# Altium footprint library Standard Components.PcbLib: 16 footprints
Each footprint in its own frame and in the unit in brackets; x right, y up, seen from the top. Pads: shape width x height; smd on the part's side, far side on the other; paste and mask are expansions set on the pad; w line width, h text height; cw(c..) or ccw(c..) is an arc to the next point about the centre after c.
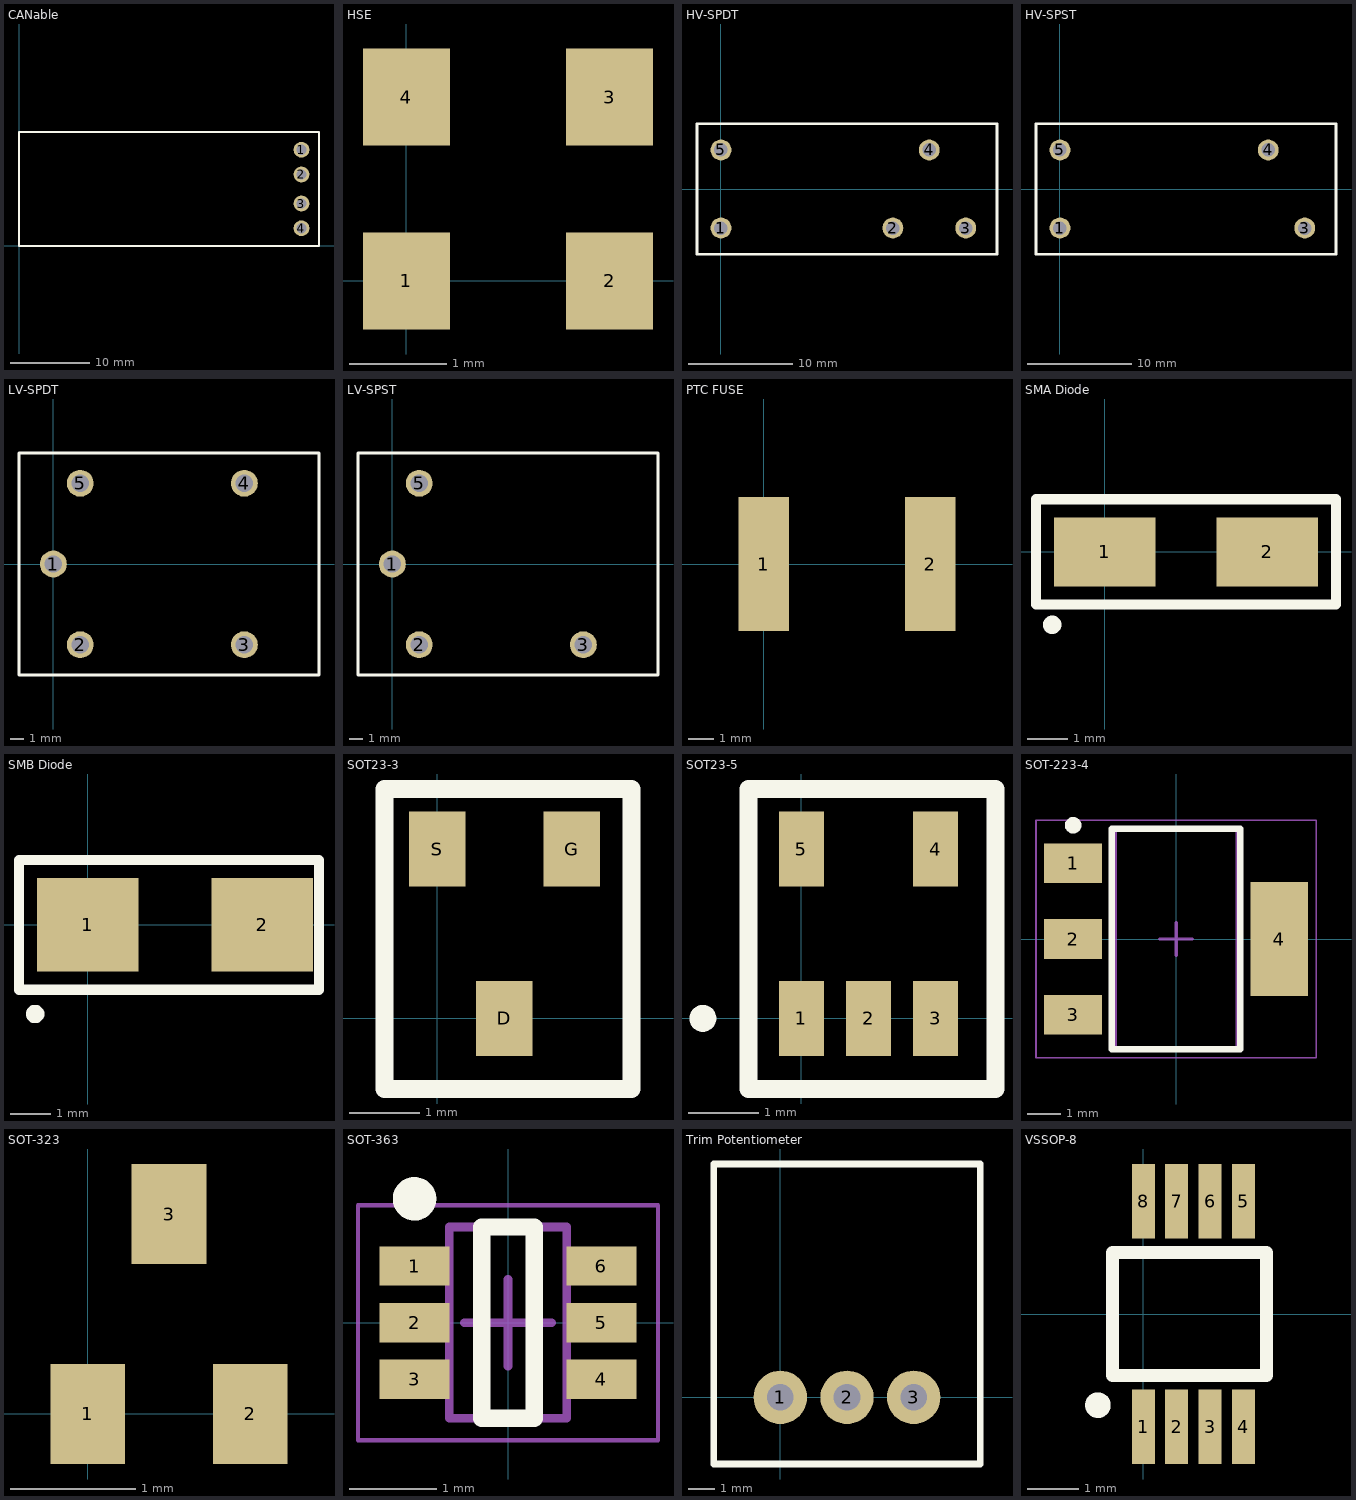
[diagram p0: the footprints below, top view; thin cyan lines are the x and y axes]

## CANable [mm] "CAN to USB adapter"
pads (4):
  round 2 hole 1.3: 1(35.636,12.13) 2(35.636,9.011) 3(35.636,5.34) 4(35.636,2.221)
Top Overlay:
  lines w0.254: 0,14.351 0,0 37.846,0 37.846,14.351 0.127,14.351
3D body: height 15.7, standoff 0, extent 0,0 37.846,14.224

## HSE [mm]
pads (4):
  rect 0.9x1 smd: 1(0,0) 2(2.1,0) 3(2.1,1.9) 4(0,1.9)

## HV-SPDT [mm]
pads (5):
  round 2 hole 1.3: 1(0,-3.75) 2(16.5,-3.75) 3(23.5,-3.75) 4(20,3.75) 5(0,3.75)
Top Overlay:
  lines w0.254: -2.3,-6.25 23.241,-6.25 26.5,-6.25 26.5,6.25 -2.3,6.25 -2.3,-6.25
3D body: height 15.7, standoff 0, extent -2.286,-6.223 26.543,6.223
3D body: height 15.7, standoff 0, extent -2.286,-6.223 26.543,6.223

## HV-SPST [mm]
pads (4):
  round 2 hole 1.3: 1(0,-3.75) 3(23.5,-3.75) 4(20,3.75) 5(0,3.75)
Top Overlay:
  lines w0.254: -2.3,-6.25 23.241,-6.25 26.5,-6.25 26.5,6.25 -2.3,6.25 -2.3,-6.25

## LV-SPDT [mm]
pads (5):
  round 2 hole 1.3: 1(0,0) 2(2,-6) 3(14.2,-6) 4(14.2,6) 5(2,6)
Top Overlay:
  lines w0.254: -2.55,-8.25 -2.55,8.25 19.75,8.25 19.75,-8.25 -2.55,-8.25

## LV-SPST [mm]
pads (4):
  round 2 hole 1.3: 1(0,0) 2(2,-6) 3(14.2,-6) 5(2,6)
Top Overlay:
  lines w0.254: -2.55,-8.25 19.75,-8.25 19.75,8.25 -2.55,8.25 -2.55,-8.25
3D body: height 19, standoff 0, extent -2.54,-8.255 19.812,8.255

## PTC FUSE [mm]
pads (2):
  rect 2x5.3 smd: 1(0,0) 2(6.6,0)

## SMA Diode [mm]
pads (2):
  rect 2.5x1.7 smd: 1(0,0) 2(4,0)
Top Overlay:
  circle w0.254: c-1.3,-1.8 r0.1
  lines w0.254: -1.7,-1.3 5.7,-1.3 5.7,1.3 -1.7,1.3 -1.7,-1.3

## SMB Diode [mm]
pads (2):
  rect 2.5x2.3 smd: 1(0,0) 2(4.3,0)
Top Overlay:
  circle w0.254: c-1.3,-2.2 r0.1
  lines w0.254: -1.7,-1.6 -1.7,1.6 5.7,1.6 5.7,-1.6 -1.7,-1.6

## SOT23-3 [mm] "SOT23-3 - MOSFET"
pads (3):
  rect 0.8x1.067 smd: D(0.95,0) G(1.9,2.4) S(0,2.4)
Top Overlay:
  lines w0.254: -0.75,-1 -0.75,3.25 2.75,3.25 2.75,-1 -0.75,-1
3D body: height 0.25, standoff 0, extent -0.762,1.651 -0.762,1.651
3D body: height 1.1, standoff 0, extent -0.762,0.7 2.75,1.7

## SOT23-5 [mm]
pads (5):
  rect 0.635x1.067 smd: 1(0,0) 2(0.95,0) 3(1.9,0) 4(1.9,2.4) 5(0,2.4)
Top Overlay:
  circle w0.254: c-1.397,0 r0.063
  lines w0.254: -0.75,-1 2.75,-1 2.75,3.25 -0.75,3.25 -0.75,-1
3D body: height 1.45, standoff 0, extent -0.762,0.7 2.75,1.7

## SOT-223-4 [mm] "SOT223, 4-Leads, Body 6.50x7.00mm (avg), Pitch 2.30mm, IPC Medium Density"
height 1.8
pads (4):
  rect 1.75x1.2 smd: 1(-3.125,2.3) 2(-3.125,0) 3(-3.125,-2.3)
  rect 1.75x3.45 smd: 4(3.125,0)
Top Overlay:
  circle w0.25: c-3.125,3.45 r0.125
  lines w0.2: -1.95,-3.35 -1.95,3.35 1.95,3.35 1.95,-3.35 -1.95,-3.35
Mechanical 13:
  lines w0.1: -1.85,-3.35 -1.85,3.35 1.85,3.35 1.85,-3.35 -1.85,-3.35
Mechanical 15:
  lines w0.05: -4.25,-3.6 -4.25,3.6 4.25,3.6 4.25,-3.6 -4.25,-3.6
  lines w0.1: -0.5,0 0.5,0 ; 0,-0.5 0,0.5
3D body "SOT230P700X180-4N.step": height 1.8, standoff 0, extent -3.5,-3.35 3.5,3.35

## SOT-323 [mm]
pads (3):
  rect 0.6x0.8 smd: 1(0,0) 2(1.3,0) 3(0.65,1.6)

## SOT-363 [mm] "SOT23, 6-Leads, Body 2.00x2.10mm, Pitch 0.65mm, IPC Medium Density"
height 1.1
pads (6):
  rect 0.8x0.45 smd: 1(-1.075,0.65) 2(-1.075,0) 3(-1.075,-0.65) 4(1.075,-0.65) 5(1.075,0) 6(1.075,0.65)
Top Overlay:
  circle w0.25: c-1.075,1.425 r0.125
  lines w0.2: -0.3,-1.1 0.3,-1.1 0.3,1.1 -0.3,1.1 -0.3,-1.1
Mechanical 13:
  lines w0.1: -0.675,-1.1 -0.675,1.1 0.675,1.1 0.675,-1.1 -0.675,-1.1
Mechanical 15:
  lines w0.05: -1.725,-1.35 -1.725,1.35 1.725,1.35 1.725,-1.35 -1.725,-1.35
  lines w0.1: -0.5,0 0.5,0 ; 0,-0.5 0,0.5
3D body: height 1.1, standoff 0.05, extent -0.675,-1.1 0.675,1.1

## Trim Potentiometer [mil]
pads (3):
  round 80 hole 40: 1(0,0) 2(100,0) 3(200,0)
Top Overlay:
  lines w10: -100,-100 -100,0 -100,350 300,350 300,0 300,-100 -100,-100

## VSSOP-8 [mm]
pads (8):
  rect 0.45x1.45 smd mask+0.05: 1(0,-2.2) 2(0.65,-2.2) 3(1.3,-2.2) 4(1.95,-2.2) 5(1.95,2.2) 6(1.3,2.2) 7(0.65,2.2) 8(0,2.2)
Top Overlay:
  circle w0.25: c-0.887,-1.778 r0.125
  lines w0.254: -0.6,-1.2 -0.6,1.2 2.4,1.2 2.4,-1.2 -0.6,-1.2